# EAGLE library part ICL7621DCPAZ (library Intersil_By_element14_Batch_1)
Operational Amplifier
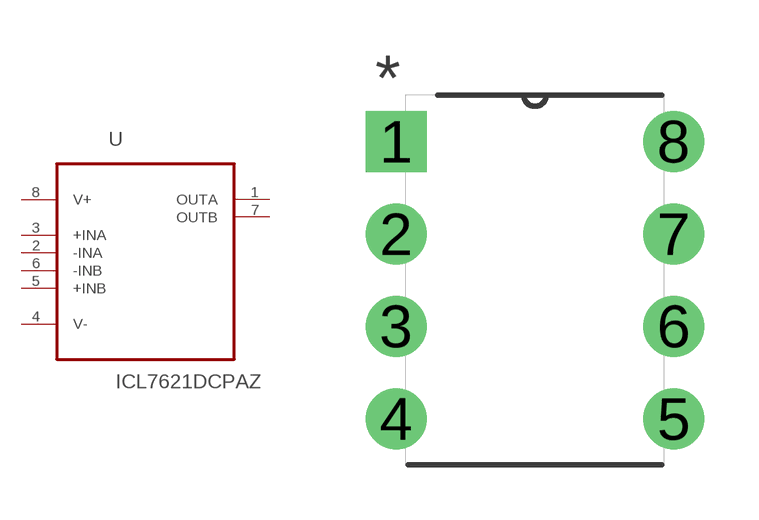
[diagram p178: symbol with the pads of DIP254P762X533-8; footprint DIP254P762X533-8]

Designator prefix U

## ICL7621DCPAZ (MPN: ICL7621DCPAZ; OC_FARNELL: 9663665; OC_NEWARK: 57K3887; PACKAGE: DIP-8; SUPPLIER: INTERSIL)  [DIP254P762X533-8]
1  OUTA  out
2  -INA  in
3  +INA  in
4  V-  pwr
5  +INB  in
6  -INB  in
7  OUTB  out
8  V+  pwr

## Footprint DIP254P762X533-8 (pad centres in mm)
drill 1.118 square: 1 -7.62,7.62
drill 1.118: 2 -7.62,5.08; 3 -7.62,2.54; 4 -7.62,0; 5 0,0; 6 0,2.54; 7 0,5.08; 8 0,7.62